# EAGLE library part S19P (library con-amp-mt)
AMP MT CONNECTOR
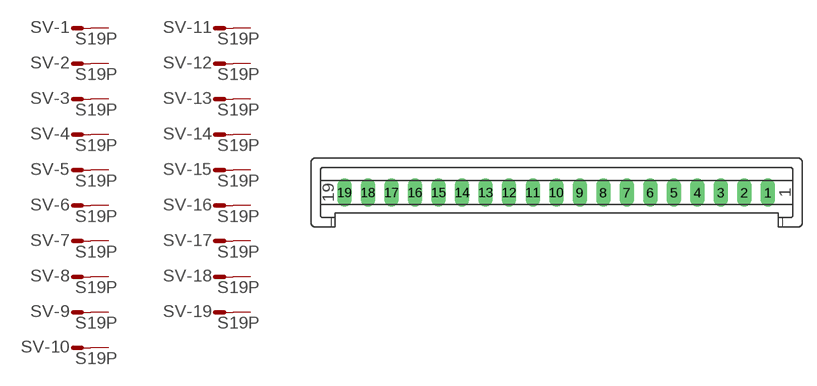
[diagram p9: symbol with the pads of S19P; footprint S19P]

Designator prefix SV; gates -1=M -2=M -3=M -4=M -5=M -6=M -7=M -8=M -9=M -10=M -11=M -12=M -13=M -14=M -15=M -16=M -17=M -18=M -19=M

## S19P (OC_FARNELL: unknown; OC_NEWARK: unknown)  [S19P]
1  -1:S  pas
2  -2:S  pas
3  -3:S  pas
4  -4:S  pas
5  -5:S  pas
6  -6:S  pas
7  -7:S  pas
8  -8:S  pas
9  -9:S  pas
10  -10:S  pas
11  -11:S  pas
12  -12:S  pas
13  -13:S  pas
14  -14:S  pas
15  -15:S  pas
16  -16:S  pas
17  -17:S  pas
18  -18:S  pas
19  -19:S  pas

## Footprint S19P (pad centres in mm)
AMP MT CONNECTOR
drill 1.016 long: 1 22.5,0; 2 20,0; 3 17.5,0; 4 15,0; 5 12.5,0; 6 10,0; 7 7.5,0; 8 5,0; 9 2.5,0; 10 0,0; 11 -2.5,0; 12 -5,0; 13 -7.5,0; 14 -10,0; 15 -12.5,0; 16 -15,0; 17 -17.5,0; 18 -20,0; 19 -22.5,0